# Altium schematic symbol library RES,1m,5%,1W,0508.Schlib: 1 symbol
Pins are listed as number, name and electrical type; pins without a type are passive.

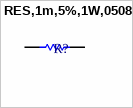
[diagram p0: symbol RES,1m,5%,1W,0508]

## RES,1m,5%,1W,0508
designator R?
pins: 1, 2